# Altium footprint library Altium-DC-DC.PcbLib: 14 footprints
Each footprint in its own frame and in the unit in brackets; x right, y up, seen from the top. Pads: shape width x height; smd on the part's side, far side on the other; paste and mask are expansions set on the pad; w line width, h text height; cw(c..) or ccw(c..) is an arc to the next point about the centre after c.
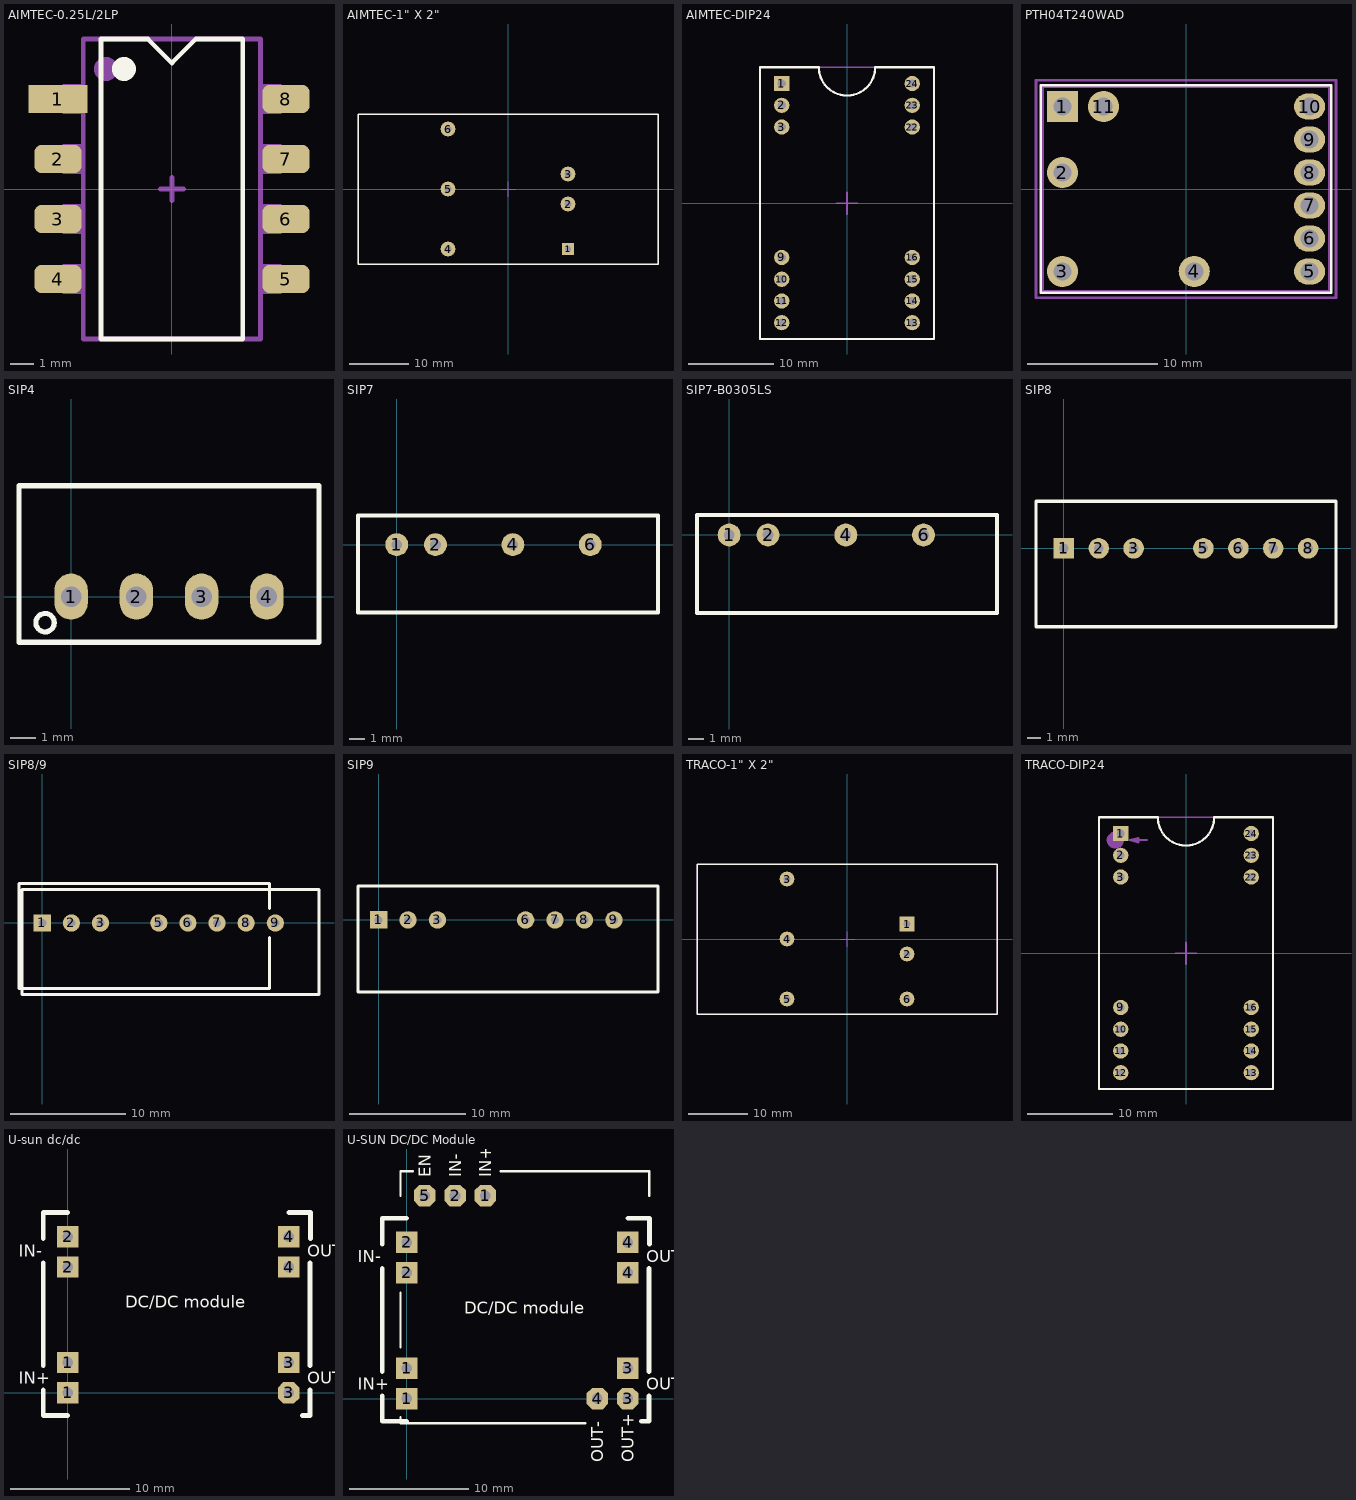
[diagram p0: the footprints below, top view; thin cyan lines are the x and y axes]

## AIMTEC-0.25L/2LP [mm]
height 6.25
pads (8):
  rect 2.5x1.2 smd: 1(-4.826,3.81)
  rrect50% 2x1.2 smd: 2(-4.826,1.27) 3(-4.826,-1.27) 4(-4.826,-3.81) 5(4.826,-3.81) 6(4.826,-1.27) 7(4.826,1.27) 8(4.826,3.81)
Top Overlay:
  circle w0.5: c-2.032,5.08 r0.254
  lines w0.2: -3,-6.35 3,-6.35 3,6.35 1.016,6.35 0,5.334 -1.016,6.35 -3,6.35 -3,-6.35
Mechanical 13:
  circle w0.5: c-2.794,5.08 r0.254
  lines w0.2: -3.75,-6.35 -3.75,6.35 3.75,6.35 3.75,-6.35 -3.75,-6.35
  lines w0.254: -4.572,-4.064 -5.334,-4.064 -5.334,-3.556 -4.572,-3.556 ; -4.572,-1.524 -5.334,-1.524 -5.334,-1.016 -4.572,-1.016 ; -4.572,1.016 -5.334,1.016 -5.334,1.524 -4.572,1.524 ; -4.572,3.556 -5.334,3.556 -5.334,4.064 -4.572,4.064 ; -3.81,-4.318 -4.572,-4.318 -4.572,-3.302 -3.81,-3.302 ; -3.81,-1.778 -4.572,-1.778 -4.572,-0.762 -3.81,-0.762 ; -3.81,0.762 -4.572,0.762 -4.572,1.778 -3.81,1.778 ; -3.81,3.302 -4.572,3.302 -4.572,4.318 -3.81,4.318 ; 3.81,-4.318 4.572,-4.318 4.572,-3.302 3.81,-3.302 ; 3.81,-1.778 4.572,-1.778 4.572,-0.762 3.81,-0.762 ; 3.81,0.762 4.572,0.762 4.572,1.778 3.81,1.778 ; 3.81,3.302 4.572,3.302 4.572,4.318 3.81,4.318 ; 4.572,-4.064 5.334,-4.064 5.334,-3.556 4.572,-3.556 ; 4.572,-1.524 5.334,-1.524 5.334,-1.016 4.572,-1.016 ; 4.572,1.016 5.334,1.016 5.334,1.524 4.572,1.524 ; 4.572,3.556 5.334,3.556 5.334,4.064 4.572,4.064
  text ".Designator" at -4.121,7.527 h2
Mechanical 15:
  lines w0.2: -0.5,0 0.5,0 ; 0,-0.5 0,0.5
3D body: height 6.25, standoff 0.25, extent -3.75,-6.35 3.75,6.35

## AIMTEC-1" X 2" [mm]
height 11.1
pads (6):
  rect 2x2 hole 1: 1(10.16,-10.16)
  round 2.5 hole 1.2: 2(10.16,-2.54) 3(10.16,2.54) 4(-10.16,-10.16) 5(-10.16,0) 6(-10.16,10.16)
Top Overlay:
  lines w0.254: -25.4,-12.7 25.4,-12.7 25.4,12.7 -25.4,12.7 -25.4,-12.7
Mechanical 13:
  lines w0.2: -25.4,-12.7 -25.4,12.7 25.4,12.7 25.4,-12.7 -25.4,-12.7
Mechanical 15:
  lines w0.2: -1.27,0 1.27,0 ; 0,-1.27 0,1.27
3D body: height 11.1, standoff 0, extent -25.4,-12.7 25.4,12.7

## AIMTEC-DIP24 [mil]
height 437.01
pads (14):
  rect 70x70 hole 38: 1(-300,550)
  round 70 hole 38: 2(-300,450) 3(-300,350) 9(-300,-250) 10(-300,-350) 11(-300,-450) 12(-300,-550) 13(300,-550) 14(300,-450) 15(300,-350) 16(300,-250) 22(300,350) 23(300,450) 24(300,550)
Top Overlay:
  lines w10: -400,-625 -400,625 -130,625 ccw(c0,625) 130,625 400,625 400,-625 -400,-625
Mechanical 13:
  lines w7.87: -400,-625 400,-625 400,625 -400,625 -400,-625
Mechanical 15:
  lines w7.87: -50,0 50,0 ; 0,-50 0,50
3D body: height 437.01, standoff 0, extent -405,-630 405,630

## PTH04T240WAD [mm] "TI non isolated POL, Through-Hole Module"
height 8.33
pads (11):
  rect 2.4x2.4 hole 1.397: 1(-9.525,6.35)
  round 2.4 hole 1.397: 2(-9.525,1.27) 3(-9.525,-6.35) 4(0.635,-6.35) 11(-6.35,6.35)
  oval 2.4x2 hole 1.397: 5(9.525,-6.35) 6(9.525,-3.81) 7(9.525,-1.27) 8(9.525,1.27) 9(9.525,3.81) 10(9.525,6.35)
Top Overlay:
  lines w0.2: -11.176,-8.001 -11.176,8.001 11.176,8.001 11.176,-8.001 -11.176,-8.001
Mechanical 13:
  lines w0.2: -11.049,-7.874 11.049,-7.874 11.049,7.874 -11.049,7.874 -11.049,-7.874
Mechanical 15:
  lines w0.2: -10.025,6.35 -9.025,6.35 ; -9.525,5.85 -9.525,6.85 ; -11.557,-8.382 -11.557,8.382 11.557,8.382 11.557,-8.382 -11.557,-8.382
3D body: height 8.33, standoff 0, extent -11.049,-7.874 11.049,7.874

## SIP4 [mm]
pads (4):
  oval 1.3x1.8 hole 0.8: 1(0,0) 2(2.54,0) 3(5.08,0) 4(7.62,0)
Top Overlay:
  circle w0.2: c-1.016,-1.016 r0.359
  lines w0.2: -2.032,-1.778 -2.032,4.318 9.652,4.318 9.652,-1.778 -2.032,-1.778
3D body: height 10, standoff 0.5, extent -2.032,-1.778 9.652,4.318

## SIP7 [mm]
height 10
pads (4):
  round 1.5 hole 0.7: 1(0,0) 2(2.54,0) 4(7.62,0) 6(12.7,0)
Top Overlay:
  lines w0.254: -1.905,-4.445 17.145,-4.445 17.145,-1.905 17.145,1.905 -1.905,1.905 -2.54,1.905 -2.54,-4.445 -1.27,-4.445
3D body: height 10, standoff 0, extent -2.667,-4.572 17.272,2.032

## SIP7-B0305LS [mm]
height 10
pads (4):
  round 1.5 hole 0.7: 1(0,0) 2(2.54,0) 4(7.62,0) 6(12.7,0)
Top Overlay:
  lines w0.254: -2.1,-5.1 -2.1,1.3 17.5,1.3 17.5,-5.1 -2.1,-5.1
3D body: height 10, standoff 0, extent -2.1,-5.1 17.5,1.3

## SIP8 [mm]
height 11.1
pads (7):
  rect 1.5x1.5 hole 0.7: 1(0,0)
  round 1.5 hole 0.7: 2(2.54,0) 3(5.08,0) 5(10.16,0) 6(12.7,0) 7(15.24,0) 8(17.78,0)
Top Overlay:
  lines w0.254: -2.032,-5.715 -2.032,3.429 19.812,3.429 19.812,-5.715 -2.032,-5.715
3D body: height 11.1, standoff 0, extent -2.032,-5.715 19.812,3.429

## SIP8/9 [mm] "combination"
height 12.5
pads (8):
  rect 1.5x1.5 hole 0.7: 1(0,0)
  round 1.5 hole 0.7: 2(2.54,0) 3(5.08,0) 5(10.16,0) 6(12.7,0) 7(15.24,0) 8(17.78,0) 9(20.32,0)
Top Overlay:
  lines w0.254: 19.812,-1.27 19.812,-5.715 -2.032,-5.715 -2.032,3.429 19.812,3.429 19.812,1.27 ; -1.778,-6.223 24.13,-6.223 24.13,2.921 -1.778,2.921 -1.778,-6.223
3D body: height 12.5, standoff 0, extent -1.778,-6.223 24.13,2.921
3D body: height 11.1, standoff 0, extent -2.032,-5.715 19.812,3.429

## SIP9 [mm]
height 12.5
pads (7):
  rect 1.5x1.5 hole 0.7: 1(0,0)
  round 1.5 hole 0.7: 2(2.54,0) 3(5.08,0) 6(12.7,0) 7(15.24,0) 8(17.78,0) 9(20.32,0)
Top Overlay:
  lines w0.254: -1.778,-6.223 24.13,-6.223 24.13,2.921 -1.778,2.921 -1.778,-6.223
3D body: height 12.5, standoff 0, extent -1.778,-6.223 24.13,2.921

## TRACO-1" X 2" [mm]
height 11.1
pads (6):
  rect 2.5x2.5 hole 1.2: 1(10.16,2.54)
  round 2.5 hole 1.2: 2(10.16,-2.54) 3(-10.16,10.16) 4(-10.16,0) 5(-10.16,-10.16) 6(10.16,-10.16)
Top Overlay:
  lines w0.254: -25.4,-12.7 -25.4,12.7 25.4,12.7 25.4,-12.7 -25.4,-12.7
Mechanical 13:
  lines w0.2: -25.4,-12.7 25.4,-12.7 25.4,12.7 -25.4,12.7 -25.4,-12.7
Mechanical 15:
  lines w0.2: -1.27,0 1.27,0 ; 0,-1.27 0,1.27
3D body: height 11.1, standoff 0, extent -25.4,-12.7 25.4,12.7

## TRACO-DIP24 [mil]
height 437.01
pads (14):
  rect 70x70 hole 35.43: 1(-300,550)
  round 70 hole 35.43: 2(-300,450) 3(-300,350) 9(-300,-250) 10(-300,-350) 11(-300,-450) 12(-300,-550) 13(300,-550) 14(300,-450) 15(300,-350) 16(300,-250) 22(300,350) 23(300,450) 24(300,550)
Top Overlay:
  lines w10: -400,-625 -400,625 -130,625 ccw(c0,625) 130,625 400,625 400,-625 -400,-625
Mechanical 13:
  circle w39.37: c-325,520 r20
  lines w7.87: -400,-625 400,-625 400,625 -400,625 -400,-625
  lines w10: -180,520 -260,520 ; -260,520 -220,510 -220,530 -260,520
  text "POWER" at -45,330 h236.22
  text "®" at 295,-280 h118.11
  text "TRACO" at 175,340 h236.22
  text ".Designator" at 470,580 h78.74
Mechanical 15:
  lines w7.87: -50,0 50,0 ; 0,-50 0,50
3D body: height 437.01, standoff 0, extent -405,-630 405,630

## U-sun dc/dc [mm]
pads (8):
  rect 1.8x1.8 hole 0.9: 1(0,0) 1(0,2.54) 2(0,10.54) 2(0,13.08) 3(18.5,2.54) 4(18.5,10.54) 4(18.5,13.08)
  oct 1.8x1.8 hole 0.9: 3(18.5,0)
Top Overlay:
  lines w0.2: -2.056,15.112 -2.032,15.112
  lines w0.4: -2.056,0.236 -2.056,-1.906 -0.024,-1.906 ; -2.056,2.268 -2.056,10.904 ; -2.056,12.936 -2.056,15.112 ; -2.032,15.112 -0.024,15.112 ; 18.518,15.112 20.32,15.112 20.32,12.936 ; 19.644,-1.906 20.296,-1.906 20.296,0.236 ; 20.296,2.268 20.296,10.904
  text "IN-" at -4.088,11.412 h1
  text "OUT-" at 20.042,11.412 h1
  text "OUT+" at 20.042,0.744 h1
  text "IN+" at -4.088,0.744 h1
  text "DC/DC module" at 4.826,7.112 h1

## U-SUN DC/DC Module [mm]
pads (12):
  rect 1.8x1.8 hole 0.9: 1(0,0) 1(0,2.54) 2(0,10.54) 2(0,13.08) 3(18.5,2.54) 4(18.5,10.54) 4(18.5,13.08)
  oct 1.8x1.8 hole 0.9: 1(6.58,17) 2(4.04,17) 3(18.5,0) 4(15.96,0) 5(1.5,17)
Top Overlay:
  lines w0.2: -2.056,15.112 -2.032,15.112 ; -0.532,-1.542 -0.532,-2.05 14.962,-2.05 ; -0.532,4.3 -0.532,8.872 ; -0.532,17 -0.532,19.032 0.484,19.032 ; 7.85,19.032 20.296,19.032 20.296,17
  lines w0.4: -2.056,0.236 -2.056,-1.906 -0.024,-1.906 ; -2.056,2.268 -2.056,10.904 ; -2.056,12.936 -2.056,15.112 ; -2.032,15.112 -0.024,15.112 ; 18.518,15.112 20.32,15.112 20.32,12.936 ; 19.644,-1.906 20.296,-1.906 20.296,0.236 ; 20.296,2.268 20.296,10.904
  text "DC/DC module" at 4.826,7.112 h1
  text "IN+" at 7.088,18.524 h1
  text "IN-" at 4.548,18.524 h1
  text "EN" at 2.008,18.524 h1
  text "OUT-" at 16.468,-5.334 h1
  text "OUT+" at 19.026,-5.352 h1
  text "IN+" at -4.088,0.744 h1
  text "OUT+" at 20.042,0.744 h1
  text "OUT-" at 20.042,11.412 h1
  text "IN-" at -4.088,11.412 h1